# Altium schematic symbol library Philips Amps.SchLib: 1 symbol
Pins are listed as number, name and electrical type; pins without a type are passive.

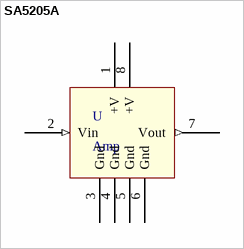
[diagram p0: symbol SA5205A]

## SA5205A
designator U, comment Amp
Wide-band high-frequency amplifier
footprint SOIC127P600-8AL (SOIC, 8-Leads, Body 4.9x3.9mm, Pitch 1.27mm, IPC High Density)
pins: 1 +V (power), 2 Vin (in), 3 Gnd (power), 4 Gnd (power), 5 Gnd (power), 6 Gnd (power), 7 Vout (out), 8 +V (power)